# EAGLE library part N3408-6302RB (library 3M_By_element14_Batch_1)
CONN HEADER 16POS STR LONG LATCH
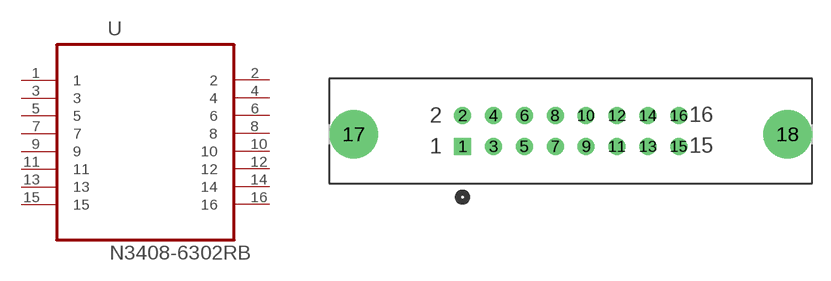
[diagram p100: symbol with the pads of 3M_N3408-6302RB; footprint 3M_N3408-6302RB]

Designator prefix U

## N3408-6302RB (MPN: N3408-6302RB; OC_FARNELL: 9838112; OC_NEWARK: 34P5453; PACKAGE: CONN HEADER 16POS STR LONG LATCH; SUPPLIER: 3M)  [3M_N3408-6302RB]
1  1  pas
2  2  pas
3  3  pas
4  4  pas
5  5  pas
6  6  pas
7  7  pas
8  8  pas
9  9  pas
10  10  pas
11  11  pas
12  12  pas
13  13  pas
14  14  pas
15  15  pas
16  16  pas

## Footprint 3M_N3408-6302RB (pad centres in mm)
drill 0.889 square: 1 -17.78,-2.54
drill 0.889: 2 -17.78,0; 3 -15.24,-2.54; 4 -15.24,0; 5 -12.7,-2.54; 6 -12.7,0; 7 -10.16,-2.54; 8 -10.16,0; 9 -7.62,-2.54; 10 -7.62,0; 11 -5.08,-2.54; 12 -5.08,0; 13 -2.54,-2.54; 14 -2.54,0; 15 0,-2.54; 16 0,0
drill 2.946: 17 -26.721,-1.524; 18 8.941,-1.524